# Altium footprint library TCKE812NA_RF.PcbLib: 1 footprints
Each footprint in its own frame and in the unit in brackets; x right, y up, seen from the top. Pads: shape width x height; smd on the part's side, far side on the other; paste and mask are expansions set on the pad; w line width, h text height; cw(c..) or ccw(c..) is an arc to the next point about the centre after c.
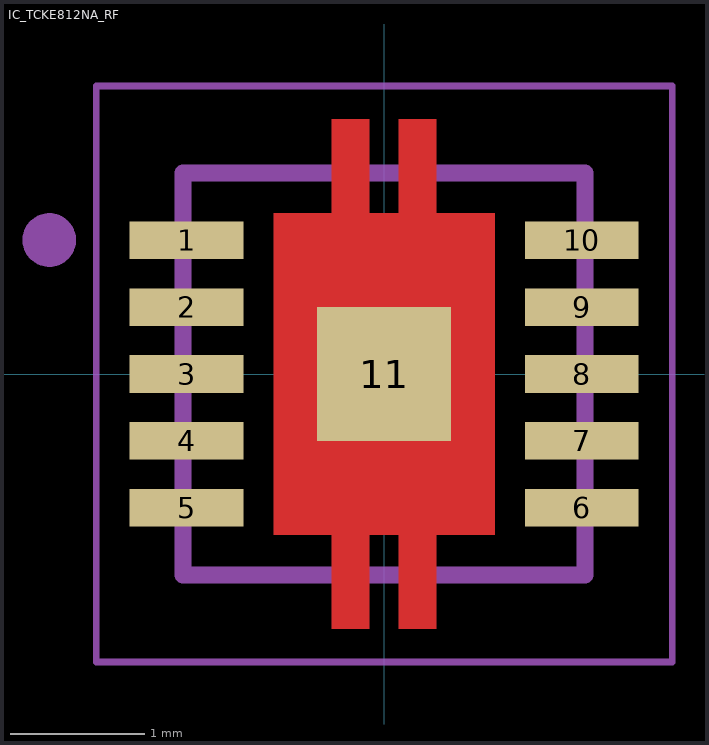
[diagram p0: the footprint, top view; thin cyan lines are the x and y axes]

## IC_TCKE812NA_RF [mm]
pads (11):
  rect 0.85x0.28 smd: 1(-1.475,1) 2(-1.475,0.5) 3(-1.475,0) 4(-1.475,-0.5) 5(-1.475,-1) 6(1.475,-1) 7(1.475,-0.5) 8(1.475,0) 9(1.475,0.5) 10(1.475,1)
  rect 1x1 smd: 11(0,0)
F.Cu:
  region: 0.39,1.2 0.825,1.2 0.825,-1.2 0.39,-1.2 0.39,-1.9 0.11,-1.9 0.11,-1.2 -0.11,-1.2 -0.11,-1.9 -0.39,-1.9 -0.39,-1.2 -0.825,-1.2 -0.825,1.2 -0.39,1.2 -0.39,1.9 -0.11,1.9 -0.11,1.2 0.11,1.2 0.11,1.9 0.39,1.9
F.Mask:
  region: 0.49,1.3 0.925,1.3 0.925,-1.3 0.49,-1.3 0.49,-2 0.01,-2 0.01,-1.3 -0.01,-1.3 -0.01,-2 -0.49,-2 -0.49,-1.3 -0.925,-1.3 -0.925,1.3 -0.49,1.3 -0.49,2 -0.01,2 -0.01,1.3 0.01,1.3 0.01,2 0.49,2
F.SilkS:
  circle w0.2: c-2.5,1 r0.1
  lines w0.127: -1.5,-1.46 -1.5,-1.5 -1.145,-1.5 ; -1.5,1.46 -1.5,1.5 -1.145,1.5 ; 1.145,-1.5 1.5,-1.5 1.5,-1.46 ; 1.145,1.5 1.5,1.5 1.5,1.46
F.Paste:
  region: -0.11,1.2 -0.39,1.2 -0.39,1.9 -0.11,1.9
  region: 0.39,1.2 0.11,1.2 0.11,1.9 0.39,1.9
  region: 0.39,-1.9 0.11,-1.9 0.11,-1.2 0.39,-1.2
  region: -0.11,-1.9 -0.39,-1.9 -0.39,-1.2 -0.11,-1.2
  region: 0.52,-0.76 -0.52,-0.76 -0.52,0.76 0.52,0.76
F.Fab:
  circle w0.2: c-2.5,1 r0.1
  lines w0.127: -1.5,-1.5 1.5,-1.5 1.5,1.5 -1.5,1.5 -1.5,-1.5
F.CrtYd:
  lines w0.05: -2.15,-2.15 2.15,-2.15 2.15,2.15 -2.15,2.15 -2.15,-2.15